# Altium integrated library AC0805JR-072K2L.IntLib: 1 symbol
Pins are listed as number, name and electrical type; pins without a type are passive.

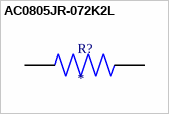
[diagram p0: symbol AC0805JR-072K2L]

## AC0805JR-072K2L
designator R?
AC0805 2,2K 5% 0,125W AUTOMO; MP: AC0805JR-072K2L; Package: None; Price: None; Value: *; Availability: Unavailable
footprint RESC2012X60N
pins: 1, 2